# EAGLE library part 280384-1 (library 280384-1)
2X4P AMPMODU II SHRD HDR, ST, TIN Source: Datasheet <https://www.te.com/commerce/DocumentDelivery/DDEController?Action=showdoc&DocId=Customer Drawing280384UpdfEnglishENG_CD_280384_U.pdf280384-1>
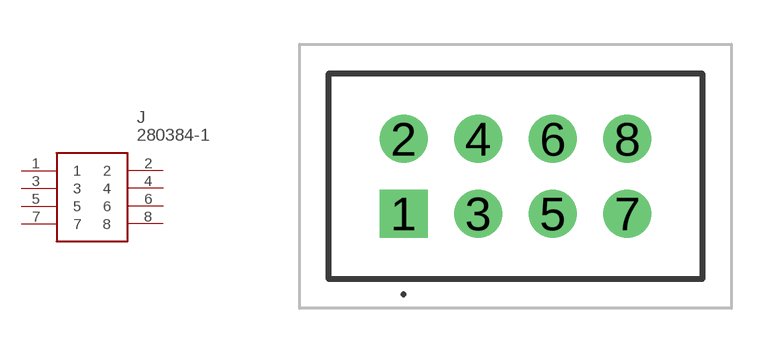
[diagram p0: symbol with the pads of 2803841; footprint 2803841]

Designator prefix J

## 280384-1 (Description: 2X4P AMPMODU II SHRD HDR, ST, TIN; Height: 12.8mm; Manufacturer_Name: TE Connectivity; Manufacturer_Part_Number: 280384-1)  [2803841]
1  1
2  2
3  3
4  4
5  5
6  6
7  7
8  8

## Footprint 2803841 (pad centres in mm)
280384-1-1
drill 1.09 pad 1.635 square: 1 0,0
drill 1.09 pad 1.635: 2 0,2.54; 3 2.54,0; 4 2.54,2.54; 5 5.08,0; 6 5.08,2.54; 7 7.62,0; 8 7.62,2.54